# EAGLE library part HX712 (library Deegou_IC)
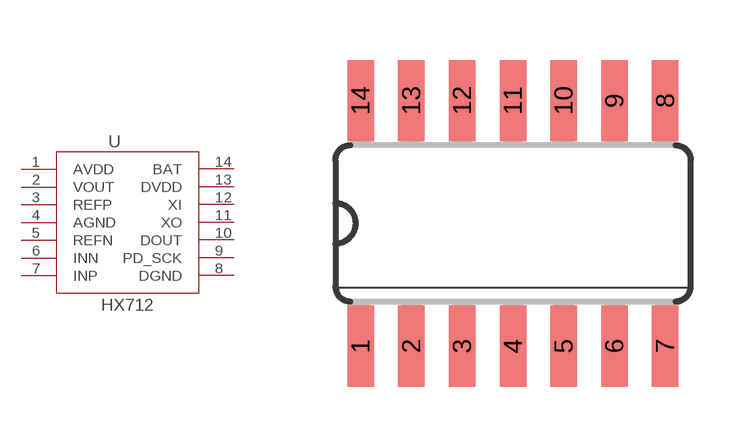
[diagram p13: symbol with the pads of SO14; footprint SO14]

Designator prefix U

## HX712  [SO14]
1  AVDD
2  VOUT
3  REFP
4  AGND
5  REFN
6  INN
7  INP
8  DGND
9  PD_SCK
10  DOUT
11  XO
12  XI
13  DVDD
14  BAT

## Footprint SO14 (pad centres in mm)
Small Outline package 150 mil
smd 0.66 x 2.032: 1 -3.81,-3.073; 2 -2.54,-3.073; 3 -1.27,-3.073; 4 0,-3.073; 5 1.27,-3.073; 6 2.54,-3.073; 7 3.81,-3.073; 8 3.81,3.073; 9 2.54,3.073; 10 1.27,3.073; 11 0,3.073; 12 -1.27,3.073; 13 -2.54,3.073; 14 -3.81,3.073